# Altium schematic symbol library Sch_RCL.SchLib: 2 symbols
Pins are listed as number, name and electrical type; pins without a type are passive.

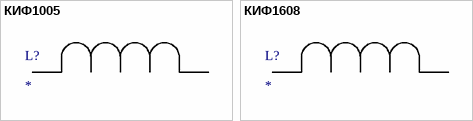
[diagram p0: symbols КИФ1005 to КИФ1608]

## КИФ1005
designator L?
Катушка индуктивности с ферритовым сердечником; Manufacturer: АО "НПО "Эркон"; Part Number: КИФ1005-"Value" "Tolerance" О РКМУ.671340.002 ТУ; Tolerance: ±  %; Value: *; Value on schem: *
footprint IND0402 (Inductor 0402)
pins: 1, 2

## КИФ1608
designator L?
Катушка индуктивности с ферритовым сердечником; Manufacturer: АО "НПО "Эркон"; Part Number: КИФ1608-"Value" "Tolerance" О РКМУ.671340.002 ТУ; Tolerance: ±  %; Value: *; Value on schem: *
footprint IND0603 (Inductor 0603 Brown)
pins: 1, 2